# Altium schematic symbol library 4259-63.SchLib: 1 symbol
Pins are listed as number, name and electrical type; pins without a type are passive.

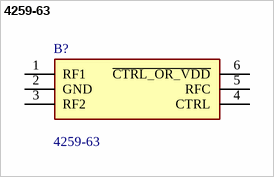
[diagram p0: symbol 4259-63]

## 4259-63
designator B?
RF switch IC; Manufacturer_Name: Peregrine Semiconductor; Geometry.Height: 1.1mm; Mouser Part Number: 81-4259-63; Mouser Price/Stock: https://www.mouser.co.uk/ProductDetail/pSemi/4259-63?qs=iw0hurA%2FaD37qvQcKdATTw%3D%3D; Manufacturer_Part_Number: 4259-63; Datasheet Link: http://www.psemi.com/pdf/datasheets/pe4259ds.pdf
footprint SOT65P210X110-6N
pins: 1 RF1, 2 GND, 3 RF2, 4 CTRL, 5 RFC, 6 ~{CTRL_OR_VDD}